# EAGLE library part 50224-008 (library con-aces-50224-series)
ACES CONNECTORS 50224 SERIES Aces Connectors 50224 <https://www.acesconn.com/tw/series/50224-xxxxx-xxx/3165>
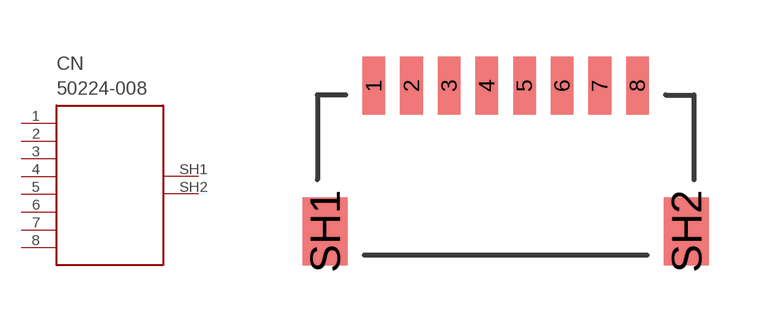
[diagram p4: symbol with the pads of 50224-008; footprint 50224-008]

Designator prefix CN

## 50224-008  [50224-008]
1  1
2  2
3  3
4  4
5  5
6  6
7  7
8  8
SH1  SH1
SH2  SH2

## Footprint 50224-008 (pad centres in mm)
smd 0.6 x 1.55: 1 -3.5,0; 2 -2.5,0; 3 -1.5,0; 4 -0.5,0; 5 0.5,0; 6 1.5,0; 7 2.5,0; 8 3.5,0
smd 1.2 x 1.8: SH1 -4.8,-3.875; SH2 4.8,-3.875